# EAGLE library part DS08 (library switch-dil)
DIL/CODE SWITCH
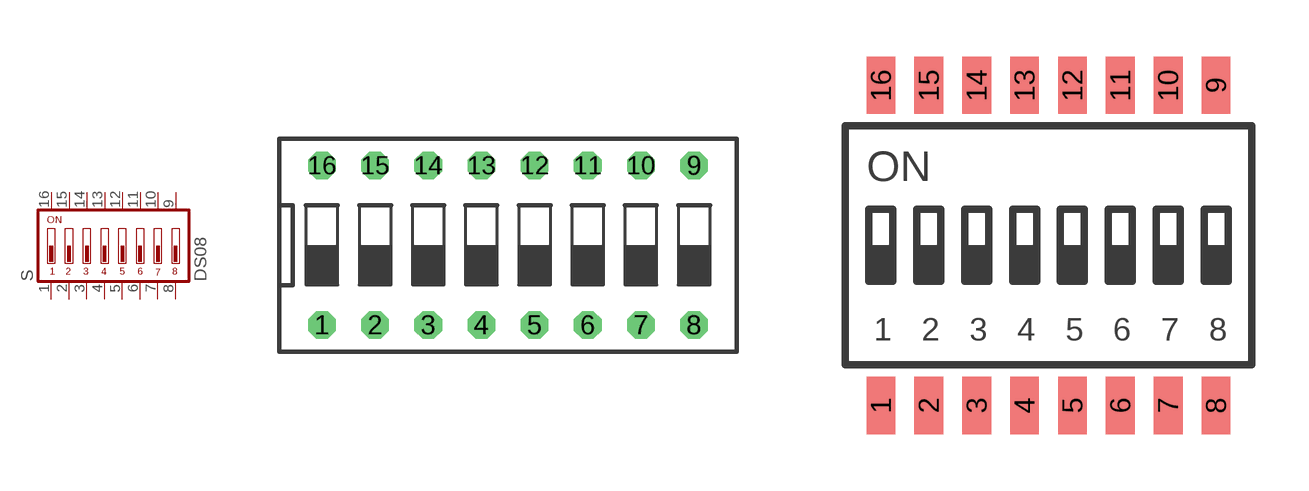
[diagram p5: symbol with the pads of DS-08; footprints DS-08, 218-08]

Designator prefix S

## DS08  [DS-08]
1  1  pas
2  2  pas
3  3  pas
4  4  pas
5  5  pas
6  6  pas
7  7  pas
8  8  pas
9  9  pas
10  10  pas
11  11  pas
12  12  pas
13  13  pas
14  14  pas
15  15  pas
16  16  pas

## DS08-CT218-8  [218-08]
Pads as for DS-08

## DS08-SDA08SK  [SDA08SK]
Pads as for DS-08

## DS08-DA-08  [DA-08]
Pads as for DS-08

## Footprint DS-08 (pad centres in mm)
DIL/CODE SWITCH Mors distributor Buerklin, 17G562
drill 0.813 octagon: 1 -8.89,-3.81; 2 -6.35,-3.81; 3 -3.81,-3.81; 4 -1.27,-3.81; 5 1.27,-3.81; 6 3.81,-3.81; 7 6.35,-3.81; 8 8.89,-3.81; 9 8.89,3.81; 10 6.35,3.81; 11 3.81,3.81; 12 1.27,3.81; 13 -1.27,3.81; 14 -3.81,3.81; 15 -6.35,3.81; 16 -8.89,3.81

## Footprint 218-08 (pad centres in mm)
CTS SERIES 218LP - Gull Wing Terminal
smd 0.762 x 1.524: 1 -4.445,-4.245; 2 -3.175,-4.245; 3 -1.905,-4.245; 4 -0.635,-4.245; 5 0.635,-4.245; 6 1.905,-4.245; 7 3.175,-4.245; 8 4.445,-4.245; 9 4.445,4.245; 10 3.175,4.245; 11 1.905,4.245; 12 0.635,4.245; 13 -0.635,4.245; 14 -1.905,4.245; 15 -3.175,4.245; 16 -4.445,4.245

## Footprint SDA08SK (pad centres in mm)
C&K SDA Series
smd 1.397 x 2.032: 1 -8.89,-4.445; 2 -6.35,-4.445; 3 -3.81,-4.445; 4 -1.27,-4.445; 5 1.27,-4.445; 6 3.81,-4.445; 7 6.35,-4.445; 8 8.89,-4.445; 9 8.89,4.445; 10 6.35,4.445; 11 3.81,4.445; 12 1.27,4.445; 13 -1.27,4.445; 14 -3.81,4.445; 15 -6.35,4.445; 16 -8.89,4.445

## Footprint DA-08 (pad centres in mm)
DIL/CODE SWITCH Mors distributor Buerklin, 17G592
drill 0.813 octagon: 1 -8.89,-1.27; 2 -6.35,-1.27; 3 -3.81,-1.27; 4 -1.27,-1.27; 5 1.27,-1.27; 6 3.81,-1.27; 7 6.35,-1.27; 8 8.89,-1.27; 9 8.89,1.27; 10 6.35,1.27; 11 3.81,1.27; 12 1.27,1.27; 13 -1.27,1.27; 14 -3.81,1.27; 15 -6.35,1.27; 16 -8.89,1.27